# Altium schematic symbol library PCAD_LAB01_02.SchLib: 5 symbols
Pins are listed as number, name and electrical type; pins without a type are passive.

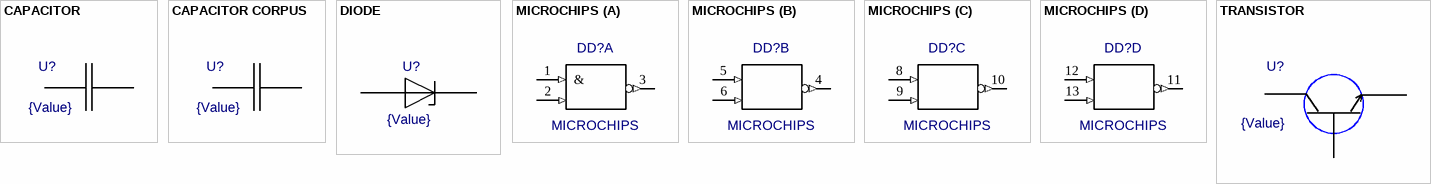
[diagram p0: symbols CAPACITOR to TRANSISTOR]

## CAPACITOR
designator U?  value {Value}  (hidden comment: *)
footprint CAPACITOR_CAPACITOR(Primary)
pins: 3 0, 4 0

## CAPACITOR CORPUS
designator U?  value {Value}  (hidden comment: *)
footprint CAPACITOR_CAPACITOR CORPUS(Primary)
pins: 3 0, 4 0

## DIODE
designator U?  value {Value}  (hidden comment: *)
footprint DIODE_CORPUS
pins: 1 0, 2 0

## MICROCHIPS
designator DD?
Value: *
footprint MICRO
pins on every part: 7 GND (power) hidden, 14 Vcc (power) hidden
part A pins: 1 & (in), 2 (in), 3 (out)
part B pins: 4 (out), 5 (in), 6 (in)
part C pins: 8 (in), 9 (in), 10 (out)
part D pins: 11 (out), 12 (in), 13 (in)

## TRANSISTOR
designator U?  value {Value}  (hidden comment: *)
footprint TRANSISTOR CORPUS_TRANSISTOR(Primary)
pins: B, C 0, E